# EAGLE library part 24AA02E48-I/SN (library Microchip-24AA02E48-I_SN)
128-Bit I2C™ Bus Serial EEPROM,SOIC-8
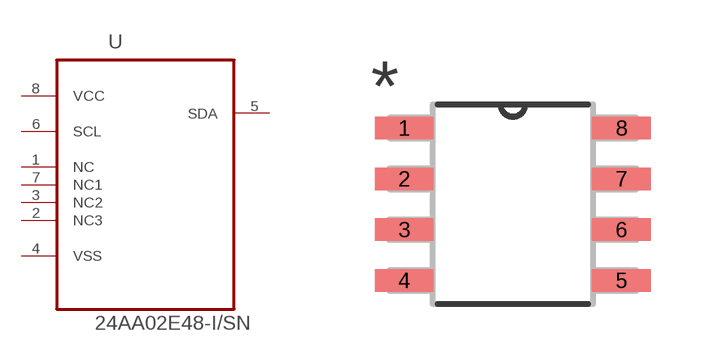
[diagram p0: symbol with the pads of SOIC127P600X175-8N; footprint SOIC127P600X175-8N]

Designator prefix U

## 24AA02E48-I/SN (MPN: 24AA02E48-I/SN; OC_FARNELL: 1688857; OC_NEWARK: 45P4894; PACKAGE: SOIC-8; SUPPLIER: MICROCHIP)  [SOIC127P600X175-8N]
1  NC  nc
2  NC3  nc
3  NC2  nc
4  VSS  pwr
5  SDA
6  SCL  in
7  NC1  nc
8  VCC  pwr

## Footprint SOIC127P600X175-8N (pad centres in mm)
smd 1.473 x 0.559: 1 -2.718,1.905; 2 -2.718,0.635; 3 -2.718,-0.635; 4 -2.718,-1.905; 5 2.718,-1.905; 6 2.718,-0.635; 7 2.718,0.635; 8 2.718,1.905